# Altium footprint library SM15T33CA.PcbLib: 1 footprints
Each footprint in its own frame and in the unit in brackets; x right, y up, seen from the top. Pads: shape width x height; smd on the part's side, far side on the other; paste and mask are expansions set on the pad; w line width, h text height; cw(c..) or ccw(c..) is an arc to the next point about the centre after c.
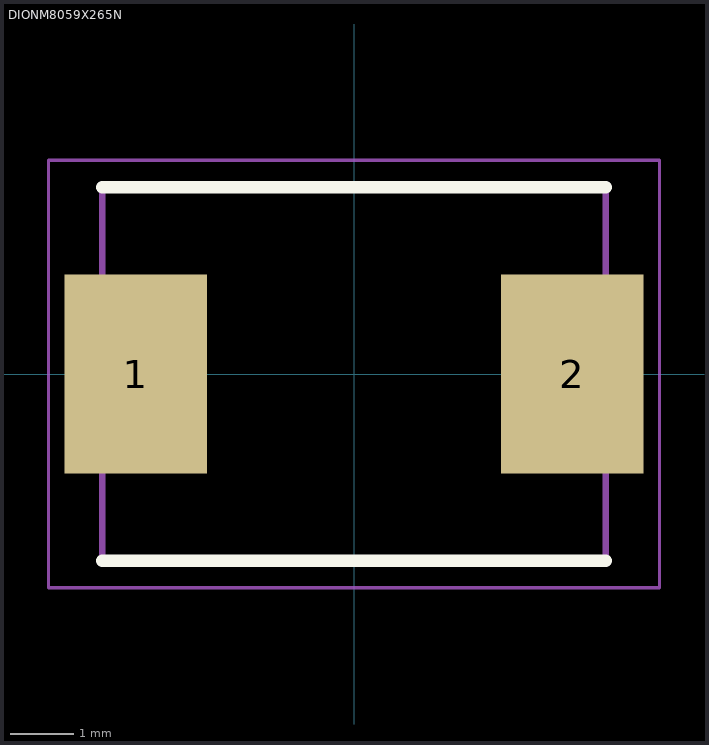
[diagram p0: the footprint, top view; thin cyan lines are the x and y axes]

## DIONM8059X265N [mm]
pads (2):
  rect 2.25x3.15 smd: 1(-3.45,0) 2(3.45,0)
Top Overlay:
  lines w0.2: -3.975,-2.95 3.975,-2.95 ; -3.975,2.95 3.975,2.95
Mechanical 13:
  lines w0.1: -3.975,-2.95 3.975,-2.95 3.975,2.95 -3.975,2.95 -3.975,-2.95
Mechanical 15:
  lines w0.05: -4.825,-3.375 4.825,-3.375 4.825,3.375 -4.825,3.375 -4.825,-3.375
3D body "SM15T33CA.stp": height 2.65, standoff 0, extent -3.975,-2.95 3.975,2.95